# Altium schematic symbol library Si4133-D-GM.Schlib: 1 symbol
Pins are listed as number, name and electrical type; pins without a type are passive.

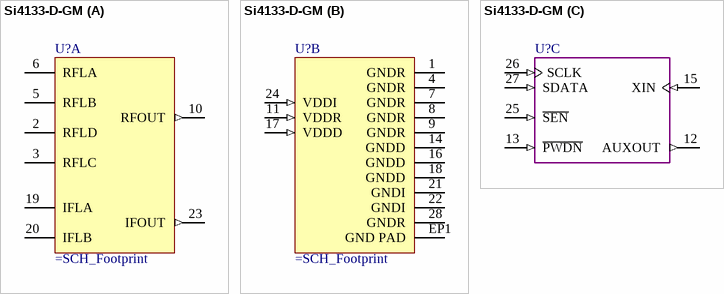
[diagram p0: symbol Si4133-D-GM]

## Si4133-D-GM
designator U?  (value not drawn)
part A pins: 2 RFLD "Common ground for digital circuitry", 3 RFLC "Common ground for digital circuitry", 5 RFLB "Common ground for digital circuitry", 6 RFLA "Common ground for digital circuitry", 10 RFOUT (out) "Common ground for digital circuitry", 19 IFLA "Pins for inductor connection to IF VCO", 20 IFLB "Pins for inductor connection to IF VCO", 23 IFOUT (out) "Intermediate frequency (IF) output of the IF VCO"
part B pins: 1 GNDR (power) "Common ground for digital circuitry", 4 GNDR (power) "Common ground for digital circuitry", 7 GNDR (power) "Common ground for digital circuitry", 8 GNDR (power) "Common ground for digital circuitry", 9 GNDR (power) "Common ground for digital circuitry", 11 VDDR (in) "Supply voltage for digital circuitry", 14 GNDD (power) "Common ground for digital circuitry", 16 GNDD (power) "Common ground for digital circuitry", 17 VDDD (in) "Supply voltage for digital circuitry", 18 GNDD (power) "Common ground for digital circuitry", 21 GNDI (power) "Common ground for IF analog circuitry", 22 GNDI (power) "Common ground for IF analog circuitry", 24 VDDI (in) "Supply voltage for IF analog circuitry", 28 GNDR (power) "Common ground for digital circuitry", EP1 GND PAD (power)
part C pins: 12 AUXOUT (out) "Auxiliary output", 13 ~{PWDN} (in) "Powerdown input pin", 15 XIN (in) "Reference frequency amplifier input", 25 ~{SEN} (in) "Enable serial port input", 26 SCLK (in) "Serial clock input", 27 SDATA (in) "Serial data input"